# EAGLE library part CC2500 (library Taylor)
Single Chip Low Cost Low Power RF Transceiver frequency band at 2400MHz-2483.5MHz.
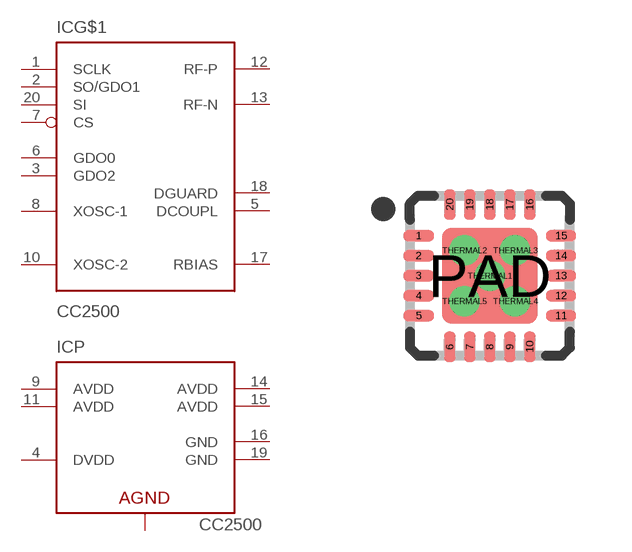
[diagram p37: symbol with the pads of QLP-20; footprint QLP-20]

Designator prefix IC; gates G$1=CC1100 P=CC1100-PWR

## CC2500  [QLP-20]
1  G$1:SCLK  in
2  G$1:SO/GDO1  out
3  G$1:GDO2  out
4  P:DVDD  pwr
5  G$1:DCOUPL  sup
6  G$1:GDO0  out
7  G$1:CS  in
8  G$1:XOSC-1  in
9  P:AVDD  pwr
10  G$1:XOSC-2  out
11  P:AVDD  pwr
12  G$1:RF-P
13  G$1:RF-N
14  P:AVDD  pwr
15  P:AVDD  pwr
16  P:GND  pwr
17  G$1:RBIAS
18  G$1:DGUARD  pwr
19  P:GND  pwr
20  G$1:SI  in
PAD  P:AGND  pwr
THERMAL1  P:AGND  pwr
THERMAL2  P:AGND  pwr
THERMAL3  P:AGND  pwr
THERMAL4  P:AGND  pwr
THERMAL5  P:AGND  pwr

## Footprint QLP-20 (pad centres in mm)
QFN50P400X400X95-21N
smd 0.76 x 0.28: 1 -1.78,1; 2 -1.78,0.5; 3 -1.78,0; 4 -1.78,-0.5; 5 -1.78,-1; 11 1.78,-1; 12 1.78,-0.5; 13 1.78,0; 14 1.78,0.5; 15 1.78,1
smd 0.28 x 0.76: 6 -1,-1.78; 7 -0.5,-1.78; 8 0,-1.78; 9 0.5,-1.78; 10 1,-1.78; 16 1,1.78; 17 0.5,1.78; 18 0,1.78; 19 -0.5,1.78; 20 -1,1.78
smd 2.4 x 2.4: PAD 0,0
drill 0.254: THERMAL1 0,0; THERMAL2 -0.635,0.635; THERMAL3 0.635,0.635; THERMAL4 0.635,-0.635; THERMAL5 -0.635,-0.635